# Altium schematic symbol library 2021-07-02_18-33-50.SchLib: 2 symbols
Pins are listed as number, name and electrical type; pins without a type are passive.

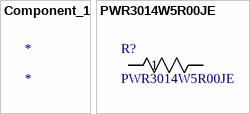
[diagram p0: symbols Component_1 to PWR3014W5R00JE]

## Component_1
designator *

## PWR3014W5R00JE
designator R?
No Description Available; Vendor: Bourns Electronics; Built_By: EMA_UL_Team; SourceLibrary: Bourns_2014-12-31; Manufacturer_Part_Number: PWR3014W5R00JE; Copyright: Copyright (C) 2021 Accelerated Designs. All rights reserved; RefDes: RefDes; Type: DEV
footprint BO_PWR3014
pins: 1, 2